# Altium schematic symbol library 100SP1T1B4M2QE.SchLib: 2 symbols
Pins are listed as number, name and electrical type; pins without a type are passive.

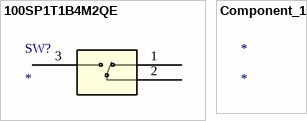
[diagram p0: symbols 100SP1T1B4M2QE to Component_1]

## 100SP1T1B4M2QE
designator SW?
No Description Available; Mfr_Name: E-Switch; Type: Toggle Switches; RefDes: RefDes
footprint 100SP1T1_EWI
pins: 1, 2, 3

## Component_1
designator *